# EAGLE library part CP2102_NEW (library MTS-OTR_Custom)
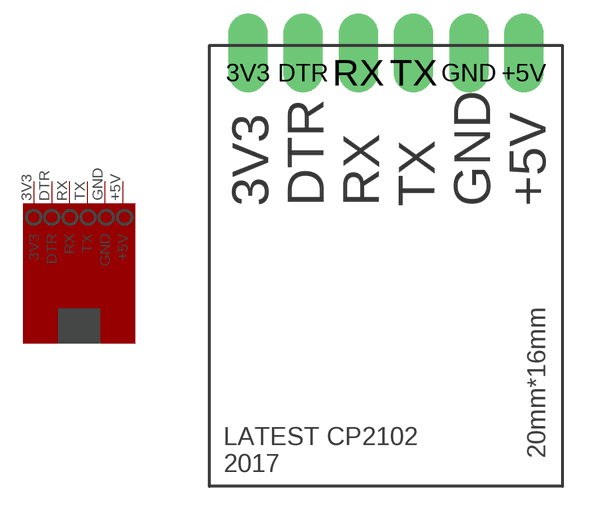
[diagram p38: symbol with the pads of CP2102_NEW; footprint CP2102_NEW]

Designator prefix -

## CP2102_NEW  [CP2102_NEW]
3V3  3V3
+5V  +5V
DTR  DTR
GND  GND
RX  RX
TX  TX

## Footprint CP2102_NEW (pad centres in mm)
drill 0.9 pad 1.8 offset: 3V3 1.75,18.75; +5V 14.25,18.75; DTR 4.25,18.75; GND 11.75,18.75; RX 6.75,18.75; TX 9.25,18.75